# EAGLE library part 662006230822 (library Wurth_Elektronik_Electromechanic_Wire_to_Board_Connectors_rev16a)
WR-MPC3 3.00mm Male Dual Row SMT Angled Header Through Hole Retention Clip, 6 Pins=>Code : Con_WTB_MPC3_2_PCB_SMT_662006230822 <http://katalog.we-online.de/media/thumbs2/eican/thb_Con_WTB_MPC3_2_PCB_SMT_6620xx230822_pf2.jpg> Details see: http://katalog.we-online.de/en/em/662_0xx_230_822 Created 2014-06-06, Karrer Zheng 2014 (C) Würth Elektronik
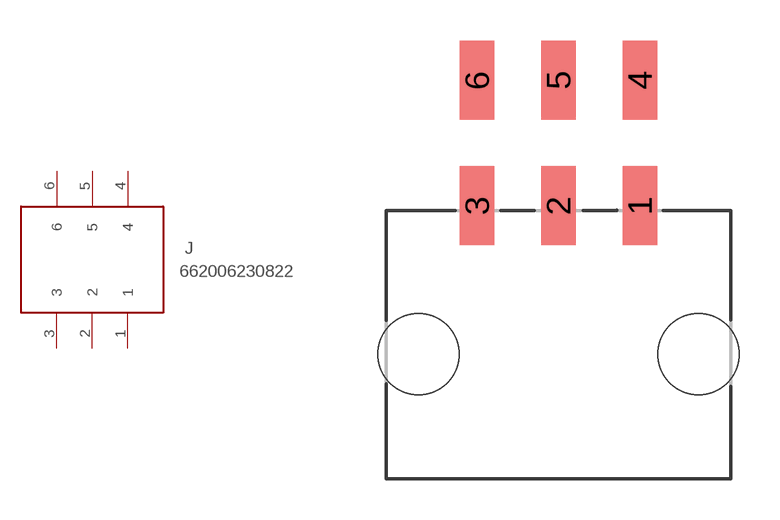
[diagram p329: symbol with the pads of 662006230822; footprint 662006230822]

Designator prefix J

## 662006230822  [662006230822]
1  1  pas
2  2  pas
3  3  pas
4  4  pas
5  5  pas
6  6  pas

## Footprint 662006230822 (pad centres in mm)
WR-MPC3 3.00mm Male Dual Row SMT Angled Header Through Hole Retention Clip, 6 Pins
smd 1.27 x 2.92: 1 3,5.48; 2 0,5.48; 3 -3,5.48; 4 3,10.1; 5 0,10.1; 6 -3,10.1
hole 3 at 5.16,0
hole 3 at -5.16,0